# EAGLE library part SN74AHCT125DR (library mccloud)
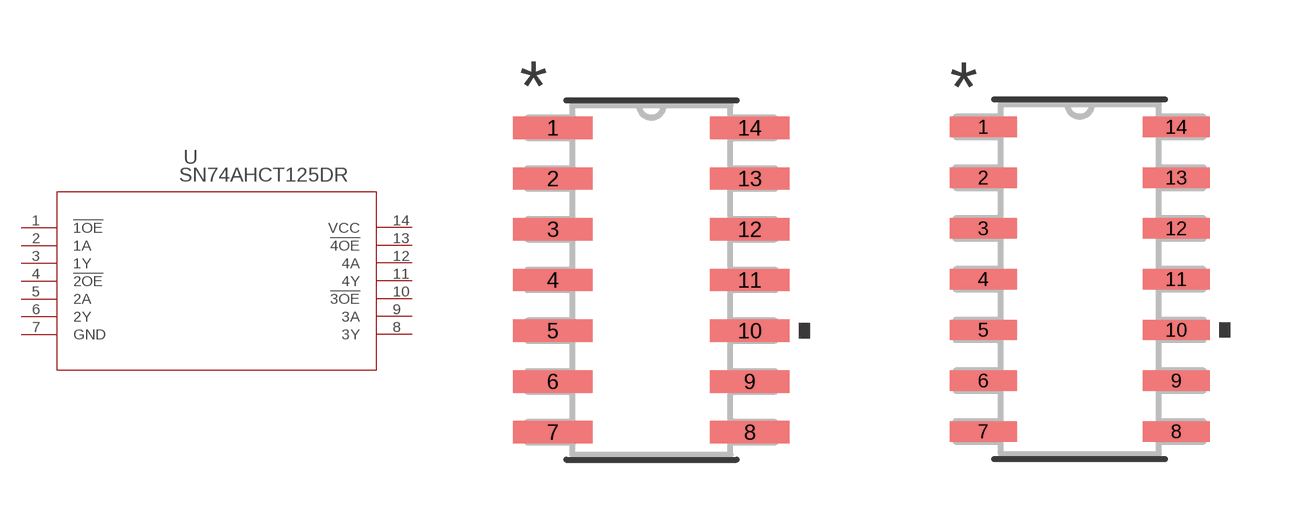
[diagram p4: symbol with the pads of D14; footprints D14, D14-L]

Designator prefix U

## SN74AHCT125DR (MANUFACTURER_PART_NUMBER: SN74AHCT125DR; VENDOR: Vendor)  [D14]
1  !1OE  in
2  1A  in
3  1Y  pas
4  !2OE  in
5  2A  in
6  2Y  pas
7  GND  pwr
8  3Y  pas
9  3A  in
10  !3OE  in
11  4Y  pas
12  4A  in
13  !4OE  in
14  VCC  pwr

## SN74AHCT125DRD14-L (MANUFACTURER_PART_NUMBER: SN74AHCT125DR; VENDOR: Vendor)  [D14-L]
Pads as for D14

## SN74AHCT125DRD14-M (MANUFACTURER_PART_NUMBER: SN74AHCT125DR; VENDOR: Vendor)  [D14-M]
Pads as for D14

## Footprint D14 (pad centres in mm)
smd 1.981 x 0.559: 1 -2.464,3.81; 2 -2.464,2.54; 3 -2.464,1.27; 4 -2.464,0; 5 -2.464,-1.27; 6 -2.464,-2.54; 7 -2.464,-3.81; 8 2.464,-3.81; 9 2.464,-2.54; 10 2.464,-1.27; 11 2.464,0; 12 2.464,1.27; 13 2.464,2.54; 14 2.464,3.81

## Footprint D14-L (pad centres in mm)
smd 1.676 x 0.508: 1 -2.413,3.81; 2 -2.413,2.54; 3 -2.413,1.27; 4 -2.413,0; 5 -2.413,-1.27; 6 -2.413,-2.54; 7 -2.413,-3.81; 8 2.413,-3.81; 9 2.413,-2.54; 10 2.413,-1.27; 11 2.413,0; 12 2.413,1.27; 13 2.413,2.54; 14 2.413,3.81

## Footprint D14-M (pad centres in mm)
smd 2.286 x 0.61: 1 -2.515,3.81; 2 -2.515,2.54; 3 -2.515,1.27; 4 -2.515,0; 5 -2.515,-1.27; 6 -2.515,-2.54; 7 -2.515,-3.81; 8 2.515,-3.81; 9 2.515,-2.54; 10 2.515,-1.27; 11 2.515,0; 12 2.515,1.27; 13 2.515,2.54; 14 2.515,3.81